# EAGLE library part JPQ-07- (library jumpers)
Jumper Block
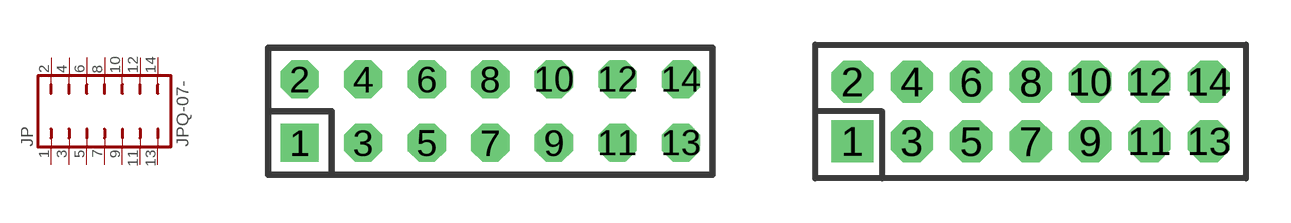
[diagram p12: symbol with the pads of JPQ-07; footprints JPQ-07, JPQ-07M]

Designator prefix JP

## JPQ-07-100  [JPQ-07]
1  1  pas
2  2  pas
3  3  pas
4  4  pas
5  5  pas
6  6  pas
7  7  pas
8  8  pas
9  9  pas
10  10  pas
11  11  pas
12  12  pas
13  13  pas
14  14  pas

## JPQ-07-2MM  [JPQ-07M]
Pads as for JPQ-07

## JPQ-07-GXC07  [GXC07]
Pads as for JPQ-07

## Footprint JPQ-07 (pad centres in mm)
JUMPER - 0.1" Pitch
drill 1.016 square: 1 -7.62,-1.27
drill 1.016 octagon: 2 -7.62,1.27; 3 -5.08,-1.27; 4 -5.08,1.27; 5 -2.54,-1.27; 6 -2.54,1.27; 7 0,-1.27; 8 0,1.27; 9 2.54,-1.27; 10 2.54,1.27; 11 5.08,-1.27; 12 5.08,1.27; 13 7.62,-1.27; 14 7.62,1.27

## Footprint JPQ-07M (pad centres in mm)
JUMPER - 2.00mm (.079") Pitch
drill 0.914 square: 1 -6,-1
drill 0.914 octagon: 2 -6,1; 3 -4,-1; 4 -4,1; 5 -2,-1; 6 -2,1; 7 0,-1; 8 0,1; 9 2,-1; 10 2,1; 11 4,-1; 12 4,1; 13 6,-1; 14 6,1

## Footprint GXC07 (pad centres in mm)
SMD HEADER - 0.1", Vertical
smd 1.27 x 5.08: 1 -7.62,-3.175; 2 -7.62,3.175; 3 -5.08,-3.175; 4 -5.08,3.175; 5 -2.54,-3.175; 6 -2.54,3.175; 7 0,-3.175; 8 0,3.175; 9 2.54,-3.175; 10 2.54,3.175; 11 5.08,-3.175; 12 5.08,3.175; 13 7.62,-3.175; 14 7.62,3.175